# EAGLE library part COUPLER_HCPL2631 (library robo_ag)
Optokoppler Reichelt: HCPL 2631 LED: 1,4V, 30mA Logik: 5V NPN: 7V, 50mA
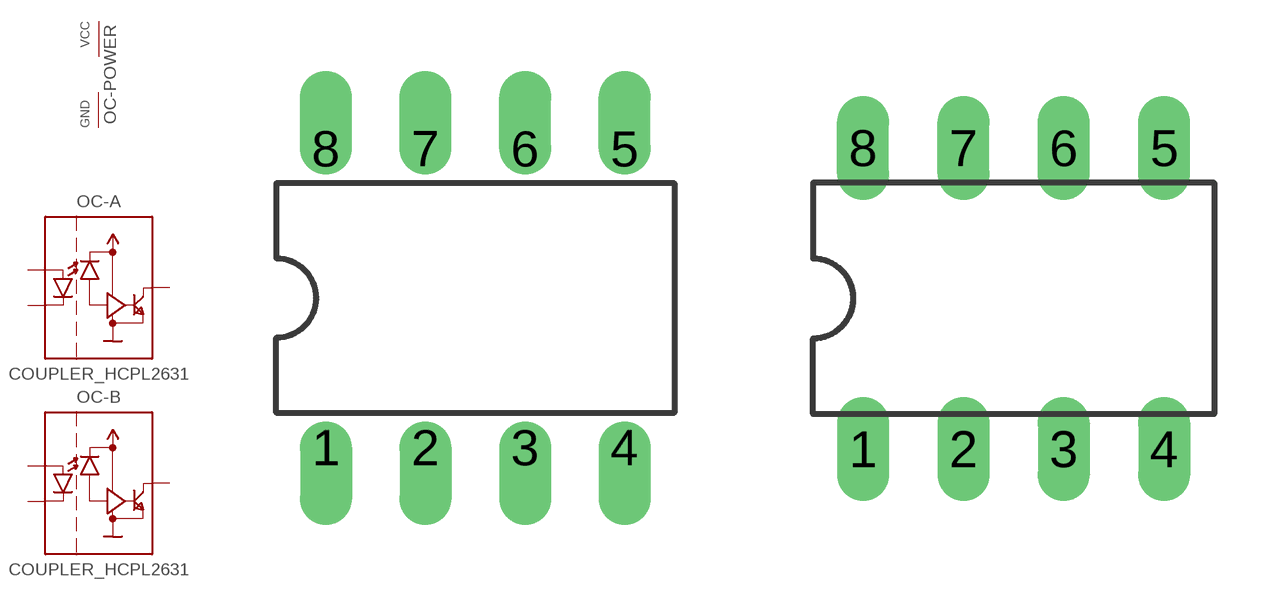
[diagram p6: symbol with the pads of IC_DIL08_OUT; footprints IC_DIL08_OUT, IC_DIL08]

Designator prefix OC; gates -B=COUPLER_2 -A=COUPLER_2 -POWER=POWER

## COUPLER_HCPL2631-OUT  [IC_DIL08_OUT]
1  -A:I_A  in
2  -A:I_K  in
3  -B:I_K  in
4  -B:I_A  in
5  -POWER:GND  pwr
6  -B:O  oc
7  -A:O  oc
8  -POWER:VCC  pwr

## COUPLER_HCPL2631  [IC_DIL08]
Pads as for IC_DIL08_OUT

## COUPLER_HCPL2631-IN  [IC_DIL08_IN]
Pads as for IC_DIL08_OUT

## Footprint IC_DIL08_OUT (pad centres in mm)
Dual In Line Package
drill 0.813 offset: 1 -3.81,-3.81; 2 -1.27,-3.81; 3 1.27,-3.81; 4 3.81,-3.81; 5 3.81,3.81; 6 1.27,3.81; 7 -1.27,3.81; 8 -3.81,3.81

## Footprint IC_DIL08 (pad centres in mm)
Dual In Line Package
drill 0.813 long: 1 -3.81,-3.81; 2 -1.27,-3.81; 3 1.27,-3.81; 4 3.81,-3.81; 5 3.81,3.81; 6 1.27,3.81; 7 -1.27,3.81; 8 -3.81,3.81

## Footprint IC_DIL08_IN (pad centres in mm)
Dual In Line Package
drill 0.813 offset: 1 -3.81,-3.81; 2 -1.27,-3.81; 3 1.27,-3.81; 4 3.81,-3.81; 5 3.81,3.81; 6 1.27,3.81; 7 -1.27,3.81; 8 -3.81,3.81